# Altium schematic symbol library BTM404 CONN2x20.Schlib: 1 symbol
Pins are listed as number, name and electrical type; pins without a type are passive.

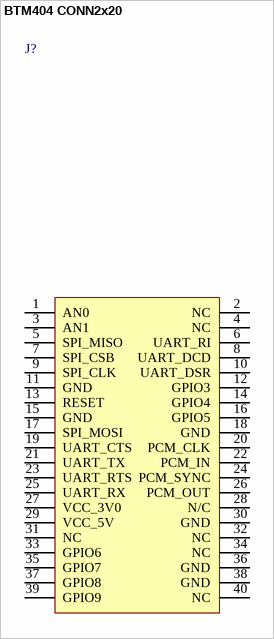
[diagram p0: symbol BTM404 CONN2x20]

## BTM404 CONN2x20
designator J?
Connector, 2x20
pins: 1 AN0, 2 NC, 3 AN1, 4 NC, 5 SPI_MISO, 6 UART_RI, 7 SPI_CSB, 8 UART_DCD, 9 SPI_CLK, 10 UART_DSR, 11 GND, 12 GPIO3, 13 RESET, 14 GPIO4, 15 GND, 16 GPIO5, 17 SPI_MOSI, 18 GND, 19 UART_CTS, 20 PCM_CLK, 21 UART_TX, 22 PCM_IN, 23 UART_RTS, 24 PCM_SYNC, 25 UART_RX, 26 PCM_OUT, 27 VCC_3V0, 28 N/C, 29 VCC_5V, 30 GND, 31 NC, 32 NC, 33 GPIO6, 34 NC, 35 GPIO7, 36 GND, 37 GPIO8, 38 GND, 39 GPIO9, 40 NC
1 alternate drawing of the same symbol